# EAGLE library part MAX1932 (library Cosmic Pi Main Board V2.4 OHWR)
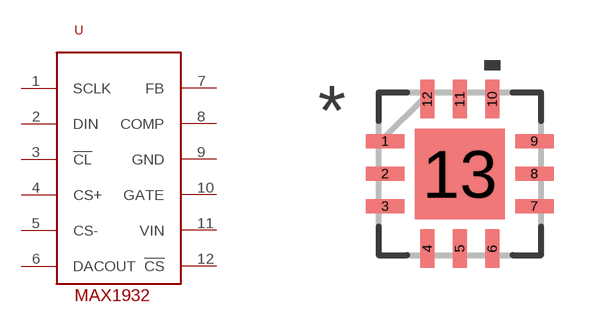
[diagram p7: symbol with the pads of TQFN-12; footprint TQFN-12]

Designator prefix U

## MAX1932  [TQFN-12]
1  SCLK
2  DIN
3  !CL
4  CS+
5  CS-
6  DACOUT
7  FB
8  COMP
9  GND
10  GATE
11  VIN
12  !CS

## Footprint TQFN-12 (pad centres in mm)
smd 0.965 x 0.356: 1 -1.867,0.813; 2 -1.867,0; 3 -1.867,-0.813; 7 1.867,-0.813; 8 1.867,0; 9 1.867,0.813
smd 0.356 x 0.965: 4 -0.813,-1.867; 5 0,-1.867; 6 0.813,-1.867; 10 0.813,1.867; 11 0,1.867; 12 -0.813,1.867
smd 2.261 x 2.261: 13 0,0